# EAGLE library part ATMEGA64M1 (library atmega16m1-32m1-64m1)
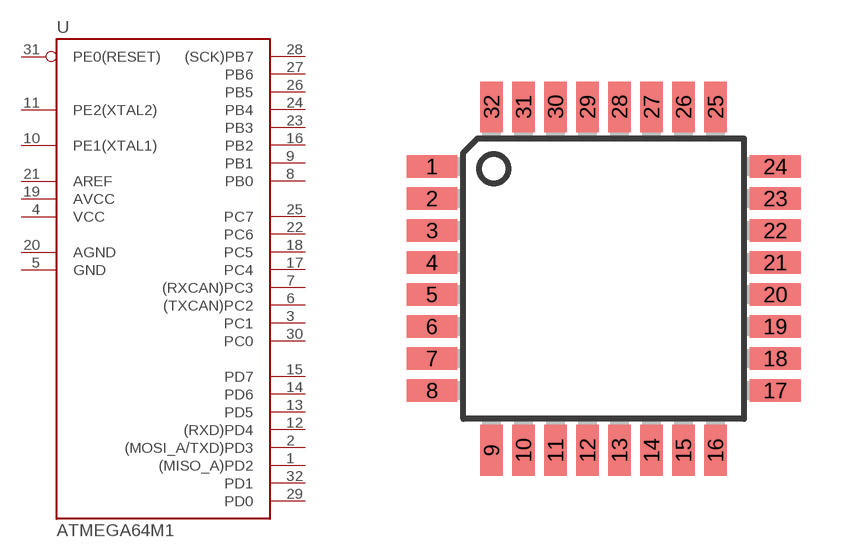
[diagram p0: symbol with the pads of TQFP32-08; footprint TQFP32-08]

Designator prefix -

## ATMEGA64M1  [TQFP32-08]
1  (MISO_A)PD2
2  (MOSI_A/TXD)PD3
3  PC1
4  VCC
5  GND  pwr
6  (TXCAN)PC2
7  (RXCAN)PC3
8  PB0
9  PB1
10  PE1(XTAL1)
11  PE2(XTAL2)
12  (RXD)PD4
13  PD5
14  PD6
15  PD7
16  PB2
17  PC4
18  PC5
19  AVCC
20  AGND  pwr
21  AREF
22  PC6
23  PB3
24  PB4
25  PC7
26  PB5
27  PB6
28  (SCK)PB7
29  PD0
30  PC0
31  PE0(RESET)  in
32  PD1

## Footprint TQFP32-08 (pad centres in mm)
Thin Plasic Quad Flat Package Grid 0.8 mm
smd 1.27 x 0.559: 1 -4.293,2.8; 2 -4.293,2; 3 -4.293,1.2; 4 -4.293,0.4; 5 -4.293,-0.4; 6 -4.293,-1.2; 7 -4.293,-2; 8 -4.293,-2.8; 17 4.293,-2.8; 18 4.293,-2; 19 4.293,-1.2; 20 4.293,-0.4; 21 4.293,0.4; 22 4.293,1.2; 23 4.293,2; 24 4.293,2.8
smd 0.559 x 1.27: 9 -2.8,-4.293; 10 -2,-4.293; 11 -1.2,-4.293; 12 -0.4,-4.293; 13 0.4,-4.293; 14 1.2,-4.293; 15 2,-4.293; 16 2.8,-4.293; 25 2.8,4.293; 26 2,4.293; 27 1.2,4.293; 28 0.4,4.293; 29 -0.4,4.293; 30 -1.2,4.293; 31 -2,4.293; 32 -2.8,4.293